# EAGLE library part RELAY-TINY (library Itead-misc)
BAS020
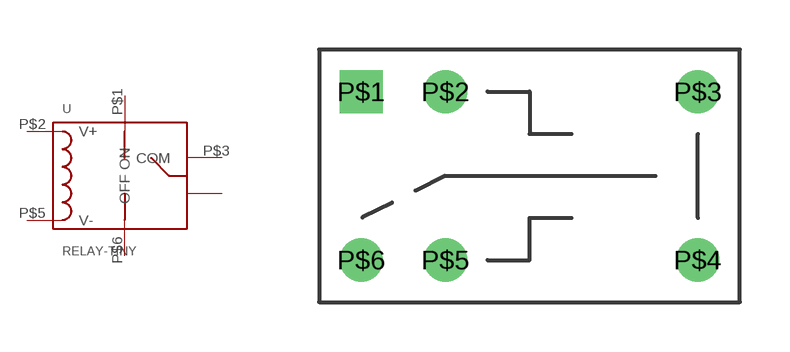
[diagram p26: symbol with the pads of RELAY-TINY; footprint RELAY-TINY]

Designator prefix -

## RELAY-TINY  [RELAY-TINY]
P$1  ON
P$2  V+
P$3  COM
P$4  COM1
P$5  V-
P$6  OFF

## Footprint RELAY-TINY (pad centres in mm)
drill 0.8 square: P$1 0,0
drill 0.8 round: P$2 2.54,0; P$3 10.16,0; P$4 10.16,-5.08; P$5 2.54,-5.08; P$6 0,-5.08